# Altium footprint library FootPrintLib_5.PCBLIB: 254 footprints (part 4 of 16)
Each footprint in its own frame and in the unit in brackets; x right, y up, seen from the top. Pads: shape width x height; smd on the part's side, far side on the other; paste and mask are expansions set on the pad; w line width, h text height; cw(c..) or ccw(c..) is an arc to the next point about the centre after c.
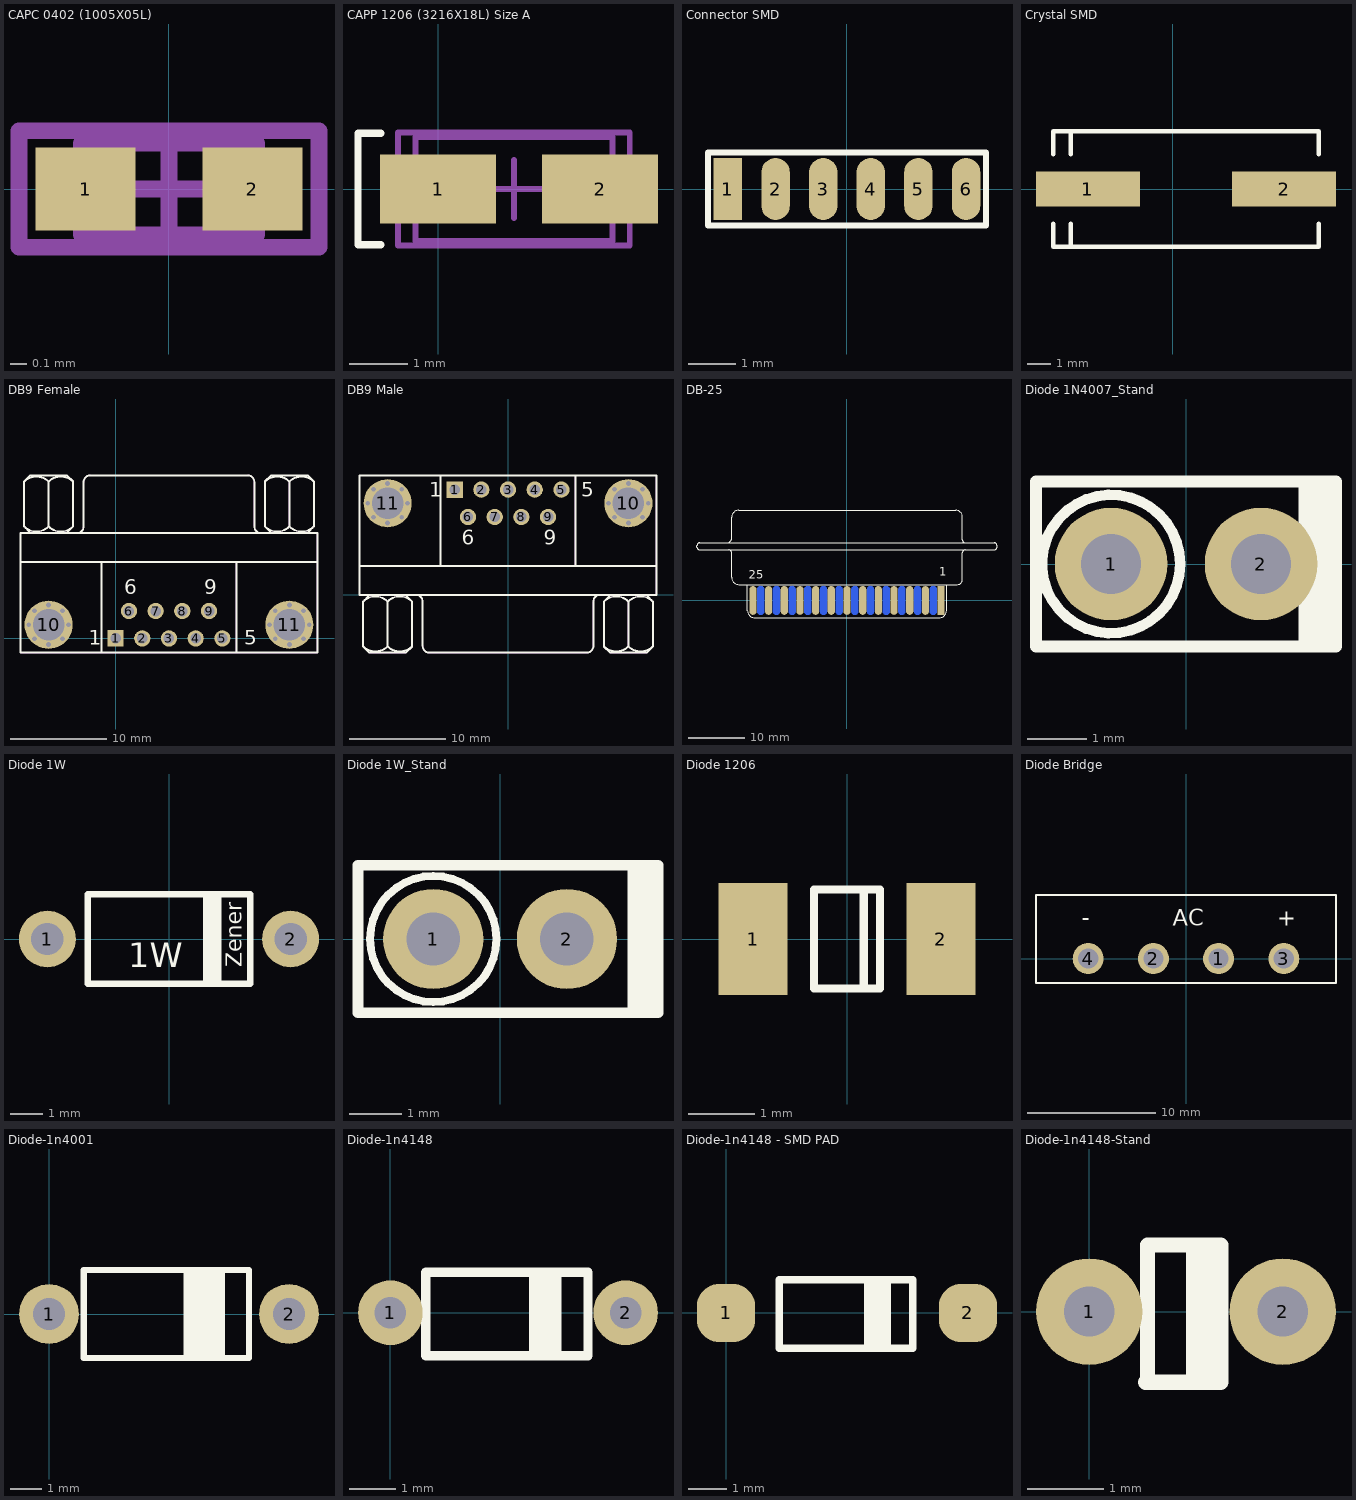
[diagram p3: the footprints below, top view; thin cyan lines are the x and y axes]

## CAPC 0402 (1005X05L) [mm] "Chip Capacitor, 2-Leads, Body 1.0x0.5mm, IPC High Density"
height 0.5
pads (2):
  rect 0.6x0.5 smd: 1(-0.5,0) 2(0.5,0)
Mechanical 13:
  lines w0.1: -0.525,-0.275 0.525,-0.275 0.525,0.275 -0.525,0.275 -0.525,-0.275
Mechanical 15:
  lines w0.1: -0.275,0 0.275,0 ; 0,-0.275 0,0.275 ; -0.9,-0.35 0.9,-0.35 0.9,0.35 -0.9,0.35 -0.9,-0.35
3D body: height 0.5, standoff 0, extent -0.525,-0.275 0.525,0.275

## CAPP 1206 (3216X18L) Size A [mm] "Chip Capacitor, 2-Leads, Body 3.2x1.6mm, IPC High Density, chip Tantalum"
height 1.8
pads (2):
  rect 1.999x1.199 smd: 1(0,0) 2(2.8,0)
Top Overlay:
  lines w0.127: -0.988,-0.965 -1.382,-0.965 -1.382,0.965 -0.988,0.965
Mechanical 13:
  lines w0.1: -0.389,-0.9 3.011,-0.9 3.011,0.9 -0.389,0.9 -0.389,-0.9
Mechanical 15:
  lines w0.1: 0.811,0 1.811,0 ; 1.311,-0.5 1.311,0.5 ; -0.689,-0.975 -0.689,0.975 3.311,0.975 3.311,-0.975 -0.689,-0.975
3D body "SW3dPS-Solid Tantalum Chip Capacitor Size (A-3216-18).STEP": height 1.8, standoff 0, extent -0.429,-0.902 3.21,0.902

## Connector SMD [mm]
pads (6):
  rect 0.6x1.3 smd: 1(-2.5,0)
  oval 0.6x1.3 smd: 2(-1.5,0) 3(-0.5,0) 4(0.5,0) 5(1.5,0) 6(2.5,0)
Top Overlay:
  lines w0.127: -2.921,-0.762 -2.921,0.762 2.921,0.762 2.921,-0.762 -2.921,-0.762

## Crystal SMD [mm]
pads (2):
  rect 4.5x1.5 smd: 1(-3.683,0) 2(4.817,0)
Top Overlay:
  lines w0.2: -5.183,-1.5 -5.183,-2.5 6.317,-2.5 6.317,-1.5 ; -5.183,1.5 -5.183,2.5 6.317,2.5 6.317,1.5 ; -4.433,-2.5 -4.433,-1.5 ; -4.433,1.5 -4.433,2.5
3D body "User Library-HC49_SMD.STEP": height 5.18, standoff 0, extent -5.642,-2.25 6.658,2.25

## DB9 Female [mm] "Connector; D Subminiature AMPLIMITE 2000; 9 Position; Right Angle"
height 12.75
pads (27):
  rect 1.69x1.69 hole 1.09: 1(0,0)
  round 1.69 hole 1.09: 2(2.77,0) 3(5.54,0) 4(8.31,0) 5(11.08,0) 6(1.385,2.84) 7(4.155,2.84) 8(6.925,2.84) 9(9.695,2.84)
  round 0.8 hole 0.5: 10(-9.015,1.42) 10(-8.412,-0.037) 10(-8.412,2.877) 10(-6.955,-0.64) 10(-6.955,3.48) 10(-5.498,-0.037) 10(-5.498,2.877) 10(-4.895,1.42) 11(15.975,1.42) 11(16.578,-0.037) 11(16.578,2.877) 11(18.035,-0.64) 11(18.035,3.48) 11(19.492,-0.037) 11(19.492,2.877) 11(20.095,1.42)
  round 5 hole 3.26: 10(-6.955,1.42) 11(18.035,1.42)
Top Overlay:
  lines w0.2: -9.86,7.92 20.94,7.92 ; -9.498,16.27 -9.498,11.619 -8.863,10.984 ; -9.498,16.285 -8.863,16.92 -5.053,16.92 -4.418,16.285 ; -6.958,11.619 -6.958,16.27 ; -5.053,10.984 -4.418,11.619 -4.418,16.27 ; -4.418,15.006 -4.418,15.218 ; -4.02,10.925 ccw(c-4.02,11.62) -3.325,11.62 -3.325,16.22 ; -3.32,16.225 cw(c-2.625,16.225) -2.625,16.92 13.705,16.92 cw(c13.705,16.225) 14.4,16.225 ; -1.46,-1.48 -1.46,7.92 ; 12.54,-1.48 12.54,7.92 ; 14.405,16.22 14.405,11.62 ccw(c15.1,11.62) 15.1,10.925 ; 15.502,16.27 15.502,11.619 16.137,10.984 ; 15.502,16.285 16.137,16.92 19.947,16.92 20.582,16.285 ; 18.042,11.619 18.042,16.27 ; 19.947,10.984 20.582,11.619 20.582,16.27 ; 20.582,15.006 20.582,15.218 ; -9.86,-1.48 20.94,-1.48 20.94,10.92 -9.86,10.92 -9.86,-1.48
  lines w0.203: -9.5,11.617 ccw(c-8.228,12.889) -6.956,11.617 ; -9.498,16.27 cw(c-8.226,14.998) -6.953,16.27 ; -6.962,16.27 cw(c-5.69,14.998) -4.418,16.27 ; -6.96,11.617 ccw(c-5.688,12.889) -4.416,11.617 ; 15.5,11.617 ccw(c16.772,12.889) 18.044,11.617 ; 15.502,16.27 cw(c16.774,14.998) 18.047,16.27 ; 18.038,16.27 cw(c19.31,14.998) 20.582,16.27 ; 18.04,11.617 ccw(c19.312,12.889) 20.584,11.617
  text "6" at 0.9,4.6 h1.5
  text "9" at 9.2,4.6 h1.5
  text "5" at 13.335,-0.64 h1.5
  text "1" at -2.794,-0.64 h1.5
Mechanical 1:
  lines w0.1: -4.02,10.925 ccw(c-4.02,11.62) -3.325,11.62 ; -3.32,16.225 cw(c-2.625,16.225) -2.625,16.92 ; 13.705,16.92 cw(c13.705,16.225) 14.4,16.225 ; 14.405,11.62 ccw(c15.1,11.62) 15.1,10.925
Mechanical 13:
  lines w0.1: -9.86,7.92 20.94,7.92 ; -9.5,11.617 ccw(c-8.228,12.889) -6.956,11.617 ; -9.498,16.285 -8.863,16.92 -5.053,16.92 -4.418,16.285 ; -8.863,10.984 -9.498,11.619 -9.498,16.27 cw(c-8.226,14.998) -6.953,16.27 ; -6.962,16.27 cw(c-5.69,14.998) -4.418,16.27 -4.418,11.619 -5.053,10.984 ; -6.96,11.617 ccw(c-5.688,12.889) -4.416,11.617 ; -6.958,11.619 -6.958,16.27 ; -4.418,15.006 -4.418,15.218 ; -3.325,11.62 -3.325,16.22 ; -2.625,16.92 13.705,16.92 ; -1.46,-1.48 -1.46,7.92 ; 12.54,-1.48 12.54,7.92 ; 14.405,11.62 14.405,16.22 ; 15.5,11.617 ccw(c16.772,12.889) 18.044,11.617 ; 15.502,16.285 16.137,16.92 19.947,16.92 20.582,16.285 ; 16.137,10.984 15.502,11.619 15.502,16.27 cw(c16.774,14.998) 18.047,16.27 ; 18.038,16.27 cw(c19.31,14.998) 20.582,16.27 20.582,11.619 19.947,10.984 ; 18.04,11.617 ccw(c19.312,12.889) 20.584,11.617 ; 18.042,11.619 18.042,16.27 ; 20.582,15.006 20.582,15.218 ; -9.86,-1.48 20.94,-1.48 20.94,10.92 -9.86,10.92 -9.86,-1.48
3D body "9-PIN_DSUB-1.STEP": height 12.71, standoff -3.01, extent -9.865,-2.034 20.945,17.041

## DB9 Male [mm] "Connector; D Subminiature AMPLIMITE 2000; 9 Position; Right Angle"
height 12.75
pads (27):
  rect 1.69x1.69 hole 1.09: 1(-5.54,10.92)
  round 1.69 hole 1.09: 2(-2.77,10.92) 3(0,10.92) 4(2.77,10.92) 5(5.54,10.92) 6(-4.155,8.08) 7(-1.385,8.08) 8(1.385,8.08) 9(4.155,8.08)
  round 0.8 hole 0.5: 10(10.435,9.5) 10(11.038,8.043) 10(11.038,10.957) 10(12.495,7.44) 10(12.495,11.56) 10(13.952,8.043) 10(13.952,10.957) 10(14.555,9.5) 11(-14.555,9.5) 11(-13.952,8.043) 11(-13.952,10.957) 11(-12.495,7.44) 11(-12.495,11.56) 11(-11.038,8.043) 11(-11.038,10.957) 11(-10.435,9.5)
  round 5 hole 3.26: 10(12.495,9.5) 11(-12.495,9.5)
Top Overlay:
  lines w0.2: -15.4,3 15.4,3 ; -15.042,-5.365 -14.407,-6 -10.597,-6 -9.962,-5.365 ; -15.042,-5.35 -15.042,-0.699 -14.407,-0.064 ; -15.042,-4.298 -15.042,-4.086 ; -12.502,-5.35 -12.502,-0.699 ; -10.597,-0.064 -9.962,-0.699 -9.962,-5.35 ; -9.56,-0.005 cw(c-9.56,-0.7) -8.865,-0.7 -8.865,-5.3 ; -8.86,-5.305 ccw(c-8.165,-5.305) -8.165,-6 8.165,-6 ccw(c8.165,-5.305) 8.86,-5.305 ; -7,3 -7,12.4 ; 7,3 7,12.4 ; 8.865,-5.3 8.865,-0.7 cw(c9.56,-0.7) 9.56,-0.005 ; 9.958,-5.365 10.593,-6 14.403,-6 15.038,-5.365 ; 9.958,-5.35 9.958,-0.699 10.593,-0.064 ; 9.958,-4.298 9.958,-4.086 ; 12.498,-5.35 12.498,-0.699 ; 14.403,-0.064 15.038,-0.699 15.038,-5.35 ; -15.4,0 15.4,0 15.4,12.4 -15.4,12.4 -15.4,0
  lines w0.203: -15.044,-0.697 cw(c-13.772,-1.969) -12.5,-0.697 ; -15.042,-5.35 ccw(c-13.77,-4.078) -12.498,-5.35 ; -12.507,-5.35 ccw(c-11.234,-4.078) -9.962,-5.35 ; -12.504,-0.697 cw(c-11.232,-1.969) -9.96,-0.697 ; 9.956,-0.697 cw(c11.228,-1.969) 12.5,-0.697 ; 9.958,-5.35 ccw(c11.23,-4.078) 12.502,-5.35 ; 12.493,-5.35 ccw(c13.766,-4.078) 15.038,-5.35 ; 12.496,-0.697 cw(c13.768,-1.969) 15.04,-0.697
  text "9" at 3.7,5.2 h1.5
  text "5" at 7.6,10.2 h1.5
  text "1" at -8.165,10.2 h1.5
  text "6" at -4.8,5.2 h1.5
Mechanical 13:
  lines w0.1: -15.4,3 15.4,3 ; -15.044,-0.697 cw(c-13.772,-1.969) -12.5,-0.697 ; -15.042,-5.365 -14.407,-6 -10.597,-6 -9.962,-5.365 ; -15.042,-4.298 -15.042,-4.086 ; -14.407,-0.064 -15.042,-0.699 -15.042,-5.35 ccw(c-13.77,-4.078) -12.498,-5.35 ; -12.507,-5.35 ccw(c-11.234,-4.078) -9.962,-5.35 -9.962,-0.699 -10.597,-0.064 ; -12.504,-0.697 cw(c-11.232,-1.969) -9.96,-0.697 ; -12.502,-5.35 -12.502,-0.699 ; -9.56,-0.005 cw(c-9.56,-0.7) -8.865,-0.7 -8.865,-5.3 ; -8.86,-5.305 ccw(c-8.165,-5.305) -8.165,-6 8.165,-6 ccw(c8.165,-5.305) 8.86,-5.305 ; -7,3 -7,12.4 ; 7,3 7,12.4 ; 8.865,-5.3 8.865,-0.7 cw(c9.56,-0.7) 9.56,-0.005 ; 9.956,-0.697 cw(c11.228,-1.969) 12.5,-0.697 ; 9.958,-5.365 10.593,-6 14.403,-6 15.038,-5.365 ; 9.958,-4.298 9.958,-4.086 ; 10.593,-0.064 9.958,-0.699 9.958,-5.35 ccw(c11.23,-4.078) 12.502,-5.35 ; 12.493,-5.35 ccw(c13.766,-4.078) 15.038,-5.35 15.038,-0.699 14.403,-0.064 ; 12.496,-0.697 cw(c13.768,-1.969) 15.04,-0.697 ; 12.498,-5.35 12.498,-0.699 ; -15.4,0 15.4,0 15.4,12.4 -15.4,12.4 -15.4,0
3D body "9-PIN_DSUB.STEP": height 12.77, standoff -2.95, extent -15.483,-6.688 15.403,12.997

## DB-25 [mm] "Connector D25 Male - SMD Design"
pads (25):
  rect 1.27x5.08 smd: 1(16.566,0)
  oval 1.27x5.08 smd: 2(13.805,0) 3(11.044,0) 4(8.283,0) 5(5.522,0) 6(2.761,0) 7(0,0) 8(-2.761,0) 9(-5.522,0) 10(-8.283,0) 11(-11.044,0) 12(-13.805,0) 13(-16.566,0)
  oval 1.27x5.08 smd far side: 14(15.186,0) 15(12.425,0) 16(9.664,0) 17(6.903,0) 18(4.142,0) 19(1.381,0) 20(-1.381,0) 21(-4.142,0) 22(-6.902,0) 23(-9.663,0) 24(-12.424,0) 25(-15.185,0)
Top Overlay:
  lines w0.127: -21.59,10.16 22.86,10.16 ; -21.336,8.89 21.59,8.89 ; -17.526,2.794 -17.526,-1.778 ccw(c-16.256,-1.778) -16.256,-3.048 16.256,-3.048 ccw(c16.256,-1.778) 17.526,-1.778 17.526,2.794 ; -26.416,9.398 ccw(c-25.908,9.398) -25.908,8.89 -20.828,8.89 cw(c-20.828,8.382) -20.32,8.382 -20.32,4.064 ccw(c-19.05,4.064) -19.05,2.794 19.453,2.794 ccw(c19.453,3.661) 20.32,3.661 20.32,8.382 cw(c20.828,8.382) 20.828,8.89 25.908,8.89 ccw(c25.908,9.398) 26.416,9.398 26.416,9.652 ccw(c25.908,9.652) 25.908,10.16 20.828,10.16 cw(c20.828,10.668) 20.32,10.668 20.32,14.732 ccw(c19.177,14.732) 19.177,15.875 -19.05,15.875 ccw(c-19.05,14.605) -20.32,14.605 -20.32,10.922 cw(c-21.082,10.922) -21.082,10.16 -25.908,10.16 ccw(c-25.908,9.652) -26.416,9.652 -26.416,9.398
  text "1" at 16.256,4.318 h1.5
  text "25" at -17.272,3.81 h1.5
3D body "SW3dPS-DB25plug_straight.STEP": height 5.51, standoff -7.04, extent -26.518,-1.422 26.518,15.875

## Diode 1N4007_Stand [mil]
pads (2):
  round 75 hole 40: 1(-50,0) 2(50,0)
Top Overlay:
  circle w7: c-50,0 r46.1
  rectangle: 75,-52 100,53
  lines w7.87: -100,-55 -100,55 100,55 100,-55 -100,-55
3D body "1N4007_Stand.STEP": height 291.09, standoff -39.37, extent -103,-52 65,53

## Diode 1W [mil]
height 122.05
pads (2):
  round 70 hole 40: 1(-150,0) 2(150,0)
Top Overlay:
  rectangle: 42,-55 65,55
  lines w7.87: -100,-55 -100,55 100,55 100,-55 -100,-55
  text "1W" at -50,-35 h30
  text "Zener" at 90,-35 h19.68
3D body "Zener 1W.STEP": height 131.24, standoff -39.37, extent -166,-52.5 165,52.5

## Diode 1W_Stand [mil]
pads (2):
  round 75 hole 40: 1(-50,0) 2(50,0)
Top Overlay:
  circle w5.91: c-50,0 r47.24
  rectangle: 95.47,-55 118.11,55
  lines w7.87: -106.3,-55 118.11,-55 118.11,55 -106.3,55 -106.3,-55
3D body "Zener 1W_Stand.STEP": height 291.09, standoff -39.37, extent -103,-52 65,53

## Diode 1206 [mm]
pads (2):
  rect 1.05x1.7 smd: 1(-1.425,0) 2(1.425,0)
Top Overlay:
  lines w0.127: 0.254,-0.75 0.254,0.75 ; -0.5,-0.75 0.5,-0.75 0.5,0.75 -0.5,0.75 -0.5,-0.75

## Diode Bridge [mil]
pads (4):
  round 95 hole 62: 1(100,0) 2(-100,0) 3(300,0) 4(-300,0)
Top Overlay:
  lines w7: -460,-75 460,-75 460,195 -460,195 -460,-75
  text "AC" at -40,100 h50
  text "-" at -320,100 h50
  text "+" at 280,100 h50
3D body "KBU8M.STEP": height 759.84, standoff -157.48, extent -455,-75 458.39,195.08

## Diode-1n4001 [mil]
pads (2):
  round 75 hole 40: 1(0,0) 2(300,0)
Top Overlay:
  rectangle: 167.83,-59.06 220,59.06
  lines w7.87: 43.31,-55 43.31,55 250,55 250,-55 43.31,-55
3D body "1N4007.STEP": height 131.24, standoff -39.37, extent -16,-52.5 315,52.5

## Diode-1n4148 [mil]
pads (2):
  round 55 hole 27: 1(0,0) 2(200,0)
Top Overlay:
  rectangle: 117.72,-36.5 145.28,34.37
  lines w7.87: 30.12,-36.5 30.12,34.37 167.91,34.37 167.91,-36.5 30.12,-36.5
3D body "1N4148.STEP": height 71.22, standoff -40, extent -6.5,-31.96 210.5,33

## Diode-1n4148 - SMD PAD [mil]
pads (2):
  rrect75% 60x60 smd: 1(0,0) 2(250,0)
Top Overlay:
  rectangle: 142.72,-36.5 170.28,34.37
  lines w7.87: 55.12,-36.5 55.12,34.37 192.91,34.37 192.91,-36.5 55.12,-36.5
3D body "1N4148.STEP": height 111.22, standoff 0, extent 16.5,-29.96 233.5,35

## Diode-1n4148-Stand [mil]
pads (2):
  round 55 hole 26: 1(0,0) 2(100,0)
Top Overlay:
  rectangle: 50,-36.87 66,34
  lines w7.87: 29.12,-36.5 67,-36.5 ; 30.12,-36.5 30.12,34.37 68,34.37 68,-36.5
3D body "1N4148_Stand_V2008.STEP": height 216.61, standoff -40, extent -32,-32 108.98,32.96